# EAGLE library part 690357281676 (library Wurth_Connectors_WR-MM)
WR-MM Male SMT Connector w/o Latch & w/o Polarization KIND PROPERTIES: Pitch 2.54 mm Quality Class :25 Mating cycles Gender:Male MATERIAL PROPERTIES: Insulator Material:PA6T Insulator Flammability Rating UL94 V-0 Insulator Color:Red Contact Material :Phosphor Bronze Contact Plating :Mat Tin over Nickel Contact Type: Stamped GENERAL PROPERTIES: Operating Temperature:-40 °C up to +105 °C Compliance Lead free / RoHS ELECTRICAL PROPERTIES: IR 1:1.5 A Working Voltage 100 V (AC) Withstanding Voltage:500 V (AC) Contact Resistance: 10 mΩ Insulation Resistance:1000 MΩ PACKAGING PROPERTIES: cULus Approval:E323964 Packaging :Tape and Reel <https://katalog.we-online.com/media/images/v2/o33158v209%20Family_WR-MM_69035728xx76.jpg> Details see: https://katalog.we-online.com/en/em/MM_1_27_SMT_MALE_CONNECTOR_W_O_LATCH_AND_POLARIZATION_69035728XX76 Updated by Yingchun,Shan 2019-10-28 2019 (C) Würth Elektronik
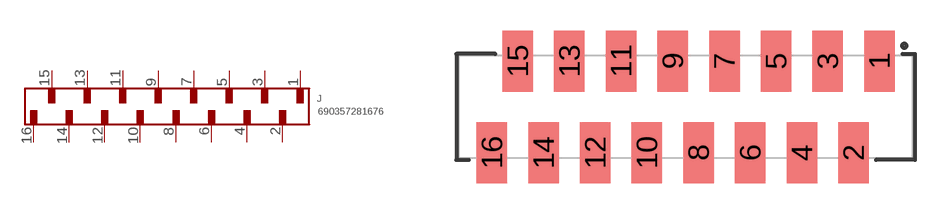
[diagram p16: symbol with the pads of 690357281676; footprint 690357281676]

Designator prefix J

## 690357281676 (DATASHEET-URL: https://www.we-online.com/catalog/datasheet/690357281676.pdf; GENDER: Male; IR: 1.5A; PACKAGING: Tape and Reel; PART-NUMBER: 690357281676; PINS: 16; PITCH: 2.54; TYPE: Straight; VALUE: 690357281676)  [690357281676]
1  1  pas
2  2  pas
3  3  pas
4  4  pas
5  5  pas
6  6  pas
7  7  pas
8  8  pas
9  9  pas
10  10  pas
11  11  pas
12  12  pas
13  13  pas
14  14  pas
15  15  pas
16  16  pas

## Footprint 690357281676 (pad centres in mm)
WR-MM Male SMT Connector w/o Latch & w/o Polarization, 16 pins
smd 1.5 x 3: 1 9.525,2.25; 2 8.255,-2.25; 3 6.985,2.25; 4 5.715,-2.25; 5 4.445,2.25; 6 3.175,-2.25; 7 1.905,2.25; 8 0.635,-2.25; 9 -0.635,2.25; 10 -1.905,-2.25; 11 -3.175,2.25; 12 -4.445,-2.25; 13 -5.715,2.25; 14 -6.985,-2.25; 15 -8.255,2.25; 16 -9.525,-2.25